# Altium schematic symbol library horus_psu.SchLib: 2 symbols
Pins are listed as number, name and electrical type; pins without a type are passive.

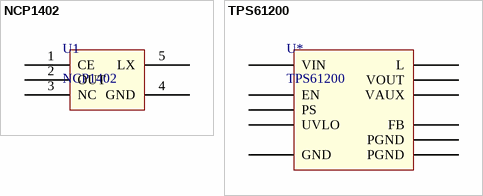
[diagram p0: symbols NCP1402 to TPS61200]

## NCP1402
designator U1
footprint SOT95P280X100-5N (SOT23, 5-Leads, Body 2.9x2.8mm (max), Pitch 0.95mm, IPC Medium Density)
pins: 1 CE, 2 OUT, 3 NC, 4 GND, 5 LX

## TPS61200
designator U*
footprint TPS61200
pins: 0 PGND, 1 VAUX, 2 VOUT, 3 L, 4 PGND, 5 VIN, 6 EN, 7 UVLO, 8 PS, 9 GND, 10 FB